# Altium footprint library 2017_LEVI.PcbLib: 9 footprints
Each footprint in its own frame and in the unit in brackets; x right, y up, seen from the top. Pads: shape width x height; smd on the part's side, far side on the other; paste and mask are expansions set on the pad; w line width, h text height; cw(c..) or ccw(c..) is an arc to the next point about the centre after c.
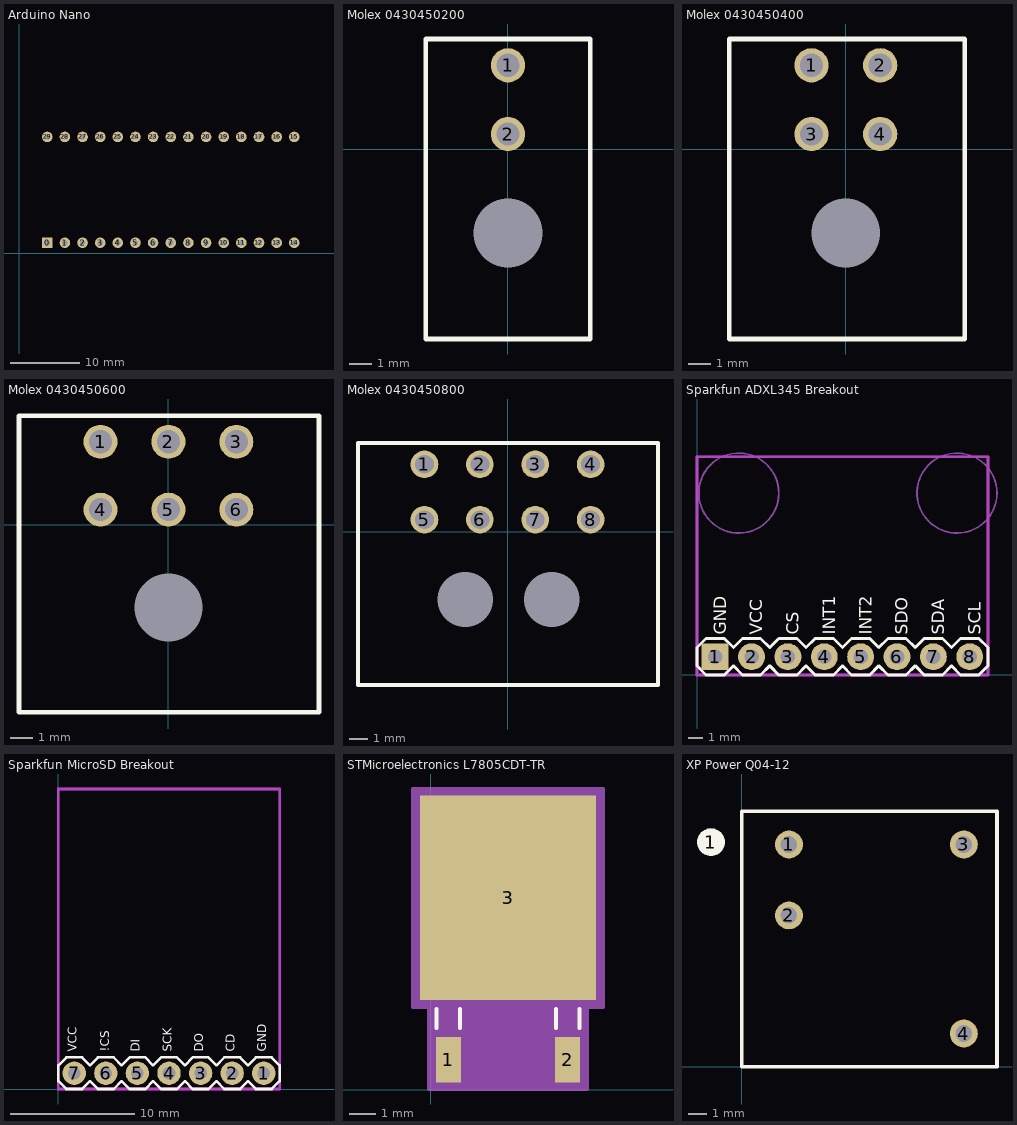
[diagram p0: the footprints below, top view; thin cyan lines are the x and y axes]

## Arduino Nano [mil]
pads (30):
  rect 60x60 hole 30: 0(160,60)
  round 60 hole 30: 1(260,60) 2(360,60) 3(460,60) 4(560,60) 5(660,60) 6(760,60) 7(860,60) 8(960,60) 9(1060,60) 10(1160,60) 11(1260,60) 12(1360,60) 13(1460,60) 14(1560,60) 15(1560,660) 16(1460,660) 17(1360,660) 18(1260,660) 19(1160,660) 20(1060,660) 21(960,660) 22(860,660) 23(760,660) 24(660,660) 25(560,660) 26(460,660) 27(360,660) 28(260,660) 29(160,660)
Top Solder:
  rectangle: 0,0 1700,730

## Molex 0430450200 [mm]
pads (3):
  round 1.5 hole 1.02: 1(0,3.66) 2(0,0.66)
  round 0 hole 3: ""(0,-3.66)
Top Overlay:
  lines w0.2: -3.6,-8.29 -3.6,4.81 3.6,4.81 3.6,-8.29 -3.6,-8.29
3D body "430450200.stp": height 8.83, standoff -3.12, extent -3.55,-8.33 3.6,3.91

## Molex 0430450400 [mm]
pads (5):
  round 1.5 hole 1.02: 1(-1.5,3.66) 2(1.5,3.66) 3(-1.5,0.66) 4(1.5,0.66)
  round 0 hole 3: ""(0,-3.66)
Top Overlay:
  lines w0.2: -5.1,-8.29 5.2,-8.29 5.2,4.81 -5.1,4.81 -5.1,-8.29
3D body "430450400.stp": height 8.83, standoff -3.12, extent -5.05,-8.11 5.1,4.13

## Molex 0430450600 [mm]
pads (7):
  round 1.5 hole 1.02: 1(-3,3.66) 2(0,3.66) 3(3,3.66) 4(-3,0.66) 5(0,0.66) 6(3,0.66)
  round 0 hole 3: ""(0,-3.66)
Top Overlay:
  lines w0.2: -6.6,-8.29 6.65,-8.29 6.65,4.81 -6.6,4.81 -6.6,-8.29
3D body "430450600.stp": height 8.83, standoff -3.12, extent -6.675,-8.14 6.475,4.1

## Molex 0430450800 [mm]
pads (10):
  round 1.5 hole 1.02: 1(-4.5,3.66) 2(-1.5,3.66) 3(1.5,3.66) 4(4.5,3.66) 5(-4.5,0.66) 6(-1.5,0.66) 7(1.5,0.66) 8(4.5,0.66)
  round 0 hole 3: ""(-2.3,-3.66) ""(2.4,-3.66)
Top Overlay:
  lines w0.2: -8.1,-8.29 -8.1,4.81 8.15,4.81 8.15,-8.29 -8.1,-8.29
3D body "430450800.stp": height 8.83, standoff -3.12, extent -8.075,-8.14 8.075,4.1

## Sparkfun ADXL345 Breakout [mil]
pads (8):
  rect 74x74 hole 40: 1(50,50)
  round 74 hole 40: 2(150,50) 3(250,50) 4(350,50) 5(450,50) 6(550,50) 7(650,50) 8(750,50)
Top Overlay:
  lines w8: 0,25 0,75 25,100 75,100 100,75 125,100 175,100 200,75 225,100 275,100 300,75 325,100 375,100 400,75 425,100 475,100 500,75 525,100 575,100 600,75 625,100 675,100 700,75 725,100 775,100 800,75 800,25 775,0 725,0 700,25 675,0 625,0 600,25 575,0 525,0 500,25 475,0 425,0 400,25 375,0 325,0 300,25 275,0 225,0 200,25 175,0 125,0 100,25 75,0 25,0 0,25
  text "INT2" at 480,110 h34
  text "INT1" at 380,110 h34
  text "SCL" at 780,110 h34
  text "SDA" at 680,110 h34
  text "SDO" at 580,110 h34
  text "CS" at 280,110 h34
  text "GND" at 80,110 h34
  text "VCC" at 180,110 h34
Keep-Out Layer:
  lines w8: 0,0 0,600 800,600 800,0 0,0
Mechanical 1:
  lines w8: 0,0 0,600 800,600 800,0 0,0
Mechanical 14:
  circle w10: c750,50 r26.93
  circle w10: c650,50 r26.93
  circle w10: c550,50 r26.93
  circle w10: c450,50 r28.28
  circle w10: c350,50 r28.28
  circle w10: c250,50 r28.28
  circle w10: c150,50 r28.28
  circle w10: c50,50 r26.93
  lines w8: 0,0 0,600 800,600 800,0 0,0
Mechanical 16:
  rectangle: 640,40 660,60
  rectangle: 540,40 560,60
  rectangle: 440,40 460,60
  rectangle: 340,40 360,60
  rectangle: 240,40 260,60
  rectangle: 140,40 160,60
  rectangle: 40,40 60,60
  rectangle: 740,40 760,60
Mechanical 27:
  circle w5: c715,500 r110
  circle w5: c115,500 r110

## Sparkfun MicroSD Breakout [mil]
pads (7):
  round 74 hole 40: 1(650,50) 2(550,50) 3(450,50) 4(350,50) 5(250,50) 6(150,50) 7(50,50)
Top Overlay:
  lines w8: 0,25 25,0 75,0 100,25 125,0 175,0 200,25 225,0 275,0 300,25 325,0 375,0 400,25 425,0 475,0 500,25 525,0 575,0 600,25 625,0 675,0 700,25 700,75 675,100 625,100 600,75 575,100 525,100 500,75 475,100 425,100 400,75 375,100 325,100 300,75 275,100 225,100 200,75 175,100 125,100 100,75 75,100 25,100 0,75 0,25
  text "VCC" at 58.52,118.16 h27.2
  text "!CS" at 160.78,118.16 h27.2
  text "DI" at 257.52,118.16 h27.2
  text "SCK" at 358.52,118.16 h27.2
  text "DO" at 458.52,118.16 h27.2
  text "CD" at 558.52,118.16 h27.2
  text "GND" at 658.52,118.16 h27.2
Keep-Out Layer:
  lines w8: 0,0 0,950 700,950 700,0 0,0
Mechanical 1:
  lines w8: 0,0 0,950 700,950 700,0 0,0
Mechanical 16:
  region: 60,60 40,60 40,40 60,40
  region: 160,60 140,60 140,40 160,40
  region: 260,60 240,60 240,40 260,40
  region: 360,60 340,60 340,40 360,40
  region: 460,60 440,60 440,40 460,40
  region: 560,60 540,60 540,40 560,40
  region: 660,60 640,60 640,40 660,40

## STMicroelectronics L7805CDT-TR [mil]
pads (3):
  rect 37x67 smd: 1(26.42,44.5) 2(203.58,44.5)
  rect 262x304 smd: 3(115,285)
Top Overlay:
  lines w6: 8.92,92 8.92,119.9 ; 43.92,92 43.92,119.9 ; 186.08,92 186.08,119.9 ; 221.08,92 221.08,119.9
Mechanical 15:
  region: -2.08,123 -26,123 -26,447 256,447 256,123 232.08,123 232.08,1 -2.08,1
  lines w6: -26,123 -2.08,123 -2.08,1 232.08,1 232.08,123 256,123 256,447 -26,447 -26,123

## XP Power Q04-12 [mm]
pads (5):
  round 1.5 on Top Overlay: 1(-1.651,12.065)
  round 1.5 hole 0.89: 1(2.54,11.94) 2(2.54,8.13) 3(11.94,11.94) 4(11.94,1.78)
Top Overlay:
  lines w0.2: 13.72,0 cw(c13.72,0.004) 13.716,0.004 13.712,0 0,0 0,13.72 13.72,13.72 13.72,0.004